# Altium footprint library General Components.PcbLib: 20 footprints (part 2 of 2)
Each footprint in its own frame and in the unit in brackets; x right, y up, seen from the top. Pads: shape width x height; smd on the part's side, far side on the other; paste and mask are expansions set on the pad; w line width, h text height; cw(c..) or ccw(c..) is an arc to the next point about the centre after c.
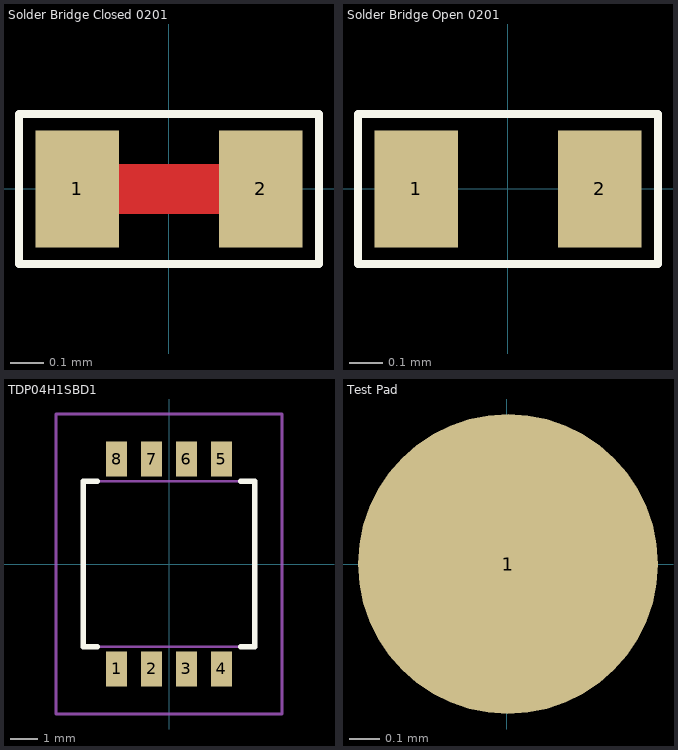
[diagram p1: the footprints below, top view; thin cyan lines are the x and y axes]

## Solder Bridge Closed 0201 [mm]
pads (2):
  rect 0.25x0.35 smd paste-100 mask+0: 1(-0.275,0) 2(0.275,0)
Top Layer:
  lines w0.15: -0.275,0 0.275,0
Top Overlay:
  lines w0.025: -0.45,-0.225 -0.45,0.225 0.45,0.225 0.45,-0.225 -0.45,-0.225
Top Solder:
  rectangle: -0.15,-0.175 0.15,0.175

## Solder Bridge Open 0201 [mm]
pads (2):
  rect 0.25x0.35 smd paste-100 mask+0: 1(-0.275,0) 2(0.275,0)
Top Overlay:
  lines w0.025: -0.45,-0.225 0.45,-0.225 0.45,0.225 -0.45,0.225 -0.45,-0.225
Top Solder:
  rectangle: -0.15,-0.175 0.15,0.175

## TDP04H1SBD1 [mm]
pads (8):
  rect 0.76x1.27 smd: 1(-1.905,-3.81) 2(-0.635,-3.81) 3(0.635,-3.81) 4(1.905,-3.81) 5(1.905,3.81) 6(0.635,3.81) 7(-0.635,3.81) 8(-1.905,3.81)
Top Overlay:
  lines w0.2: -2.6,-3 -3.105,-3 -3.105,3 -2.6,3 ; 2.6,-3 3.105,-3 3.105,3 2.6,3
Mechanical 13:
  lines w0.1: -3.105,-3 3.105,-3 3.105,3 -3.105,3 -3.105,-3
Mechanical 15:
  lines w0.1: -4.105,-5.445 4.105,-5.445 4.105,5.445 -4.105,5.445 -4.105,-5.445
3D body "TDP04H1SBD1.stp": height 4.36, standoff -0.04, extent -3.085,-4.135 3.125,3.985

## Test Pad [mm] "Exposed copper pad"
pads (1):
  round 1 smd: 1(0.004,0.001)